# Altium integrated library flexipanel.IntLib: 4 symbols
Pins are listed as number, name and electrical type; pins without a type are passive.

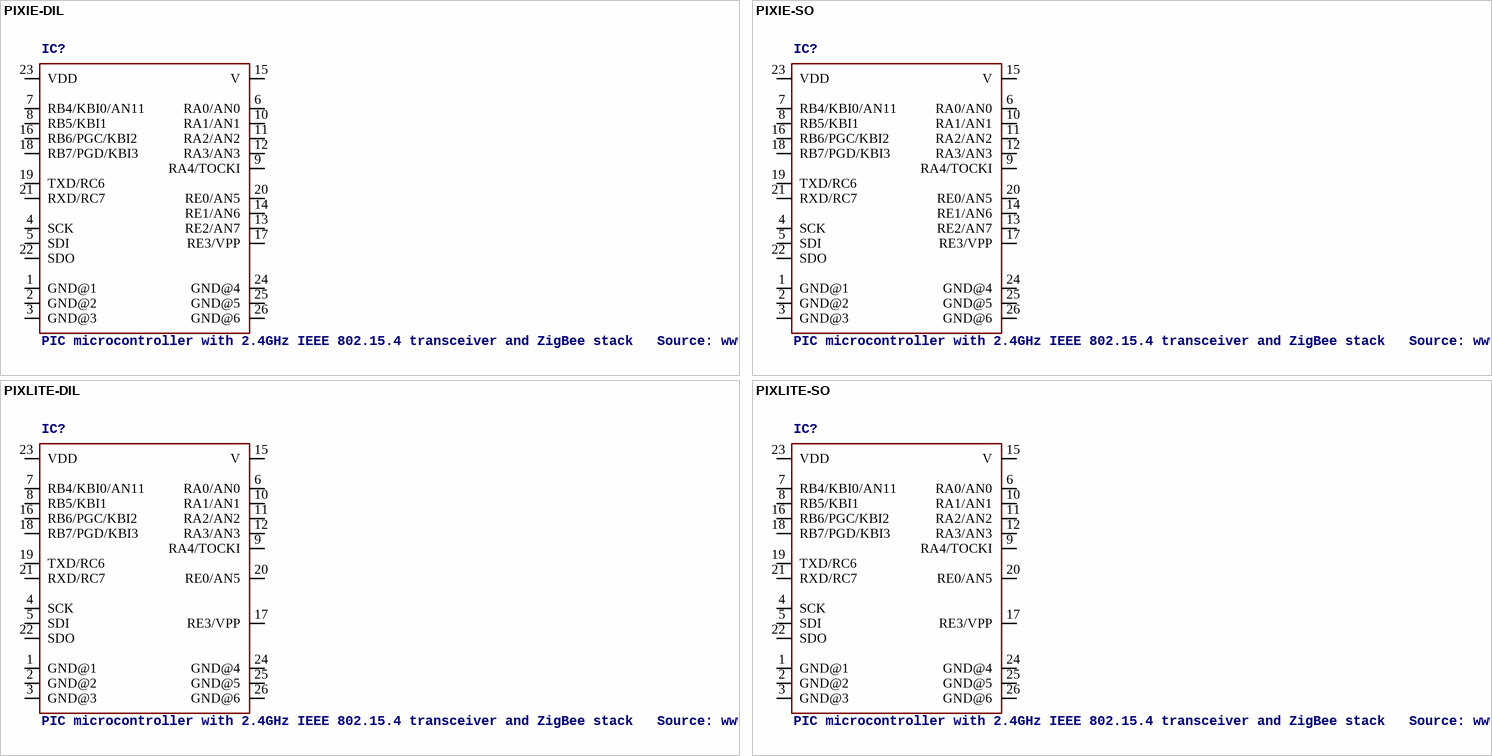
[diagram p0: symbols PIXIE-DIL to PIXLITE-SO]

## PIXIE-DIL
designator IC?, comment PIC microcontroller with 2.4GHz IEEE 802.15.4 transceiver and ZigBee stack   Source: www.FlexiPanel.com .. Pixie DS481.pdf
OC_FARNELL: unknown; OC_NEWARK: unknown
footprint PIXIE_20DS481-DIL
pins: 1 GND@1 (power), 2 GND@2 (power), 3 GND@3 (power), 4 SCK, 5 SDI, 6 RA0/AN0, 7 RB4/KBI0/AN11, 8 RB5/KBI1, 9 RA4/TOCKI, 10 RA1/AN1, 11 RA2/AN2, 12 RA3/AN3, 13 RE2/AN7, 14 RE1/AN6, 15 V, 16 RB6/PGC/KBI2, 17 RE3/VPP, 18 RB7/PGD/KBI3, 19 TXD/RC6, 20 RE0/AN5, 21 RXD/RC7, 22 SDO, 23 VDD (power), 24 GND@4 (power), 25 GND@5 (power), 26 GND@6 (power)

## PIXIE-SO
designator IC?, comment PIC microcontroller with 2.4GHz IEEE 802.15.4 transceiver and ZigBee stack   Source: www.FlexiPanel.com .. Pixie DS481.pdf
MPN: PIXIE-SO; OC_FARNELL: 1330072; OC_NEWARK: 34M8078
footprint PIXIE_20DS481
pins: 1 GND@1 (power), 2 GND@2 (power), 3 GND@3 (power), 4 SCK, 5 SDI, 6 RA0/AN0, 7 RB4/KBI0/AN11, 8 RB5/KBI1, 9 RA4/TOCKI, 10 RA1/AN1, 11 RA2/AN2, 12 RA3/AN3, 13 RE2/AN7, 14 RE1/AN6, 15 V, 16 RB6/PGC/KBI2, 17 RE3/VPP, 18 RB7/PGD/KBI3, 19 TXD/RC6, 20 RE0/AN5, 21 RXD/RC7, 22 SDO, 23 VDD (power), 24 GND@4 (power), 25 GND@5 (power), 26 GND@6 (power)

## PIXLITE-DIL
designator IC?, comment PIC microcontroller with 2.4GHz IEEE 802.15.4 transceiver and ZigBee stack   Source: www.FlexiPanel.com .. Pixie DS481.pdf
footprint PIXIE_20DS481-DIL
pins: 1 GND@1 (power), 2 GND@2 (power), 3 GND@3 (power), 4 SCK, 5 SDI, 6 RA0/AN0, 7 RB4/KBI0/AN11, 8 RB5/KBI1, 9 RA4/TOCKI, 10 RA1/AN1, 11 RA2/AN2, 12 RA3/AN3, 15 V, 16 RB6/PGC/KBI2, 17 RE3/VPP, 18 RB7/PGD/KBI3, 19 TXD/RC6, 20 RE0/AN5, 21 RXD/RC7, 22 SDO, 23 VDD (power), 24 GND@4 (power), 25 GND@5 (power), 26 GND@6 (power)

## PIXLITE-SO
designator IC?, comment PIC microcontroller with 2.4GHz IEEE 802.15.4 transceiver and ZigBee stack   Source: www.FlexiPanel.com .. Pixie DS481.pdf
OC_FARNELL: unknown; OC_NEWARK: unknown
footprint PIXIE_20DS481
pins: 1 GND@1 (power), 2 GND@2 (power), 3 GND@3 (power), 4 SCK, 5 SDI, 6 RA0/AN0, 7 RB4/KBI0/AN11, 8 RB5/KBI1, 9 RA4/TOCKI, 10 RA1/AN1, 11 RA2/AN2, 12 RA3/AN3, 15 V, 16 RB6/PGC/KBI2, 17 RE3/VPP, 18 RB7/PGD/KBI3, 19 TXD/RC6, 20 RE0/AN5, 21 RXD/RC7, 22 SDO, 23 VDD (power), 24 GND@4 (power), 25 GND@5 (power), 26 GND@6 (power)